# EAGLE library part BLUEFRUITLE-SPI (library IAD-Library)
Adafruit Bluefruit LE SPI Friend.
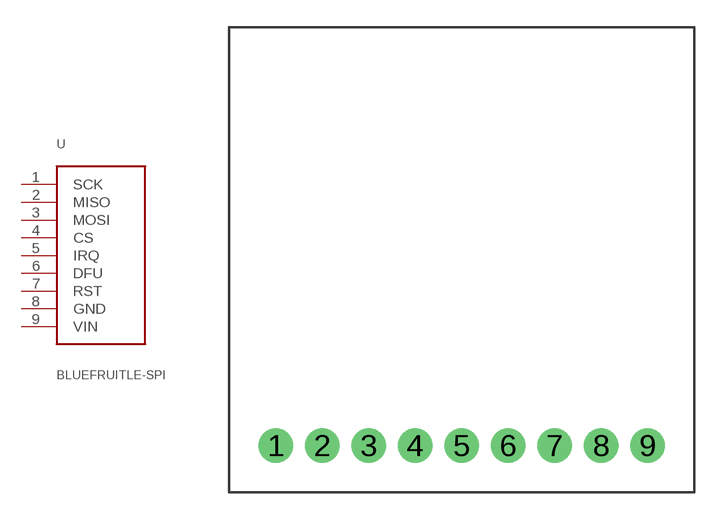
[diagram p4: symbol with the pads of BLUEFRUITLE-SPI-SOCKET; footprint BLUEFRUITLE-SPI-SOCKET]

Designator prefix -

## BLUEFRUITLE-SPI  [BLUEFRUITLE-SPI-SOCKET]
1  SCK
2  MISO
3  MOSI
4  CS
5  IRQ
6  DFU
7  RST
8  GND
9  VIN

## Footprint BLUEFRUITLE-SPI-SOCKET (pad centres in mm)
drill 1.016 pad 1.88: 1 -10.16,0; 2 -7.62,0; 3 -5.08,0; 4 -2.54,0; 5 0,0; 6 2.54,0; 7 5.08,0; 8 7.62,0; 9 10.16,0